# Altium integrated library MAX976ESA_.IntLib: 1 symbol
Pins are listed as number, name and electrical type; pins without a type are passive.

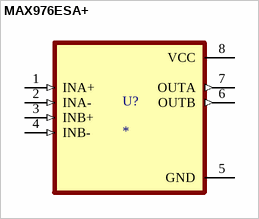
[diagram p0: symbol MAX976ESA+]

## MAX976ESA+
designator U?
MP: MAX976ESA+; Package: None; Price: None; Value: *; Availability: Unavailable
footprint SOIC127P600X175-8N
pins: 1 INA+ (in), 2 INA- (in), 3 INB+ (in), 4 INB- (in), 5 GND (power), 6 OUTB (out), 7 OUTA (out), 8 VCC (power)